# Altium schematic symbol library IC_MAX707.SchLib: 1 symbol
Pins are listed as number, name and electrical type; pins without a type are passive.

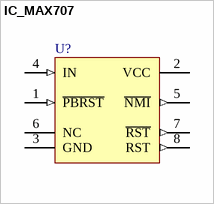
[diagram p0: symbol IC_MAX707]

## IC_MAX707
designator U?
pins: 1 ~{PBRST} (in), 2 VCC (power), 3 GND (power), 4 IN (in), 5 ~{NMI} (out), 6 NC, 7 ~{RST} (out), 8 RST (out)